# EAGLE library part MCP-7940 (library BaseApp)
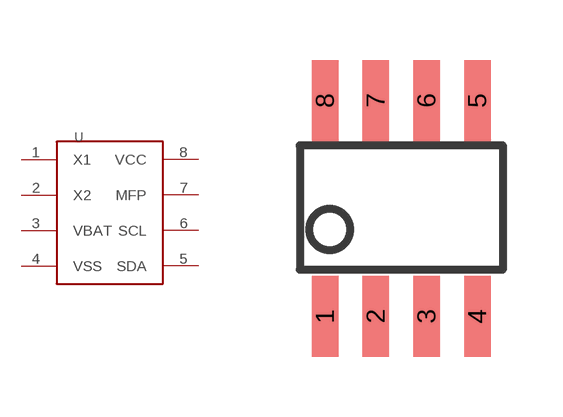
[diagram p52: symbol with the pads of SOIC-8; footprint SOIC-8]

Designator prefix -

## MCP-7940-N  [SOIC-8]
1  X1
2  X2
3  VBAT
4  VSS
5  SDA
6  SCL
7  MFP
8  VCC

## Footprint SOIC-8 (pad centres in mm)
smd 0.66 x 2.032: 1 -1.905,-2.7; 2 -0.635,-2.7; 3 0.635,-2.7; 4 1.905,-2.7; 5 1.905,2.7; 6 0.635,2.7; 7 -0.635,2.7; 8 -1.905,2.7